# EAGLE library part WING_16BIT (library dan-gadgetfactory)
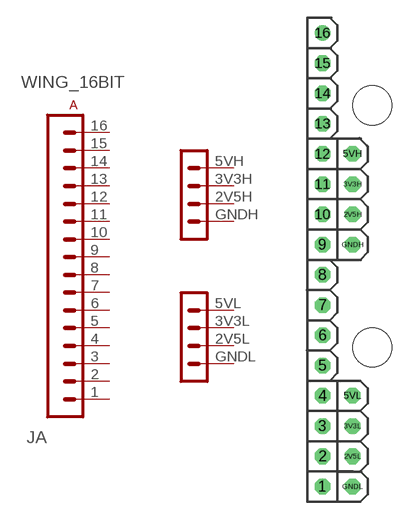
[diagram p0: symbol with the pads of WING_16BIT; footprint WING_16BIT]

Designator prefix J; gates A=WING_16BIT PL=WING_POWER PH=WING_POWER

## WING_16BIT  [WING_16BIT]
1  A:A1  pas
2  A:A2  pas
2V5H  PH:2V5  pas
2V5L  PL:2V5  pas
3  A:A3  pas
3V3H  PH:3V3  pas
3V3L  PL:3V3  pas
4  A:A4  pas
5  A:A5  pas
5VH  PH:5V  pas
5VL  PL:5V  pas
6  A:A6  pas
7  A:A7  pas
8  A:A8  pas
9  A:A9  pas
10  A:A10  pas
11  A:A11  pas
12  A:A12  pas
13  A:A13  pas
14  A:A14  pas
15  A:A15  pas
16  A:A16  pas
GNDH  PH:GND  pas
GNDL  PL:GND  pas

## Footprint WING_16BIT (pad centres in mm)
drill 0.8 octagon: 1 1.27,-19.05; 2 1.27,-16.51; 2V5H 3.81,3.81; 2V5L 3.81,-16.51; 3 1.27,-13.97; 3V3H 3.81,6.35; 3V3L 3.81,-13.97; 4 1.27,-11.43; 5 1.27,-8.89; 5VH 3.81,8.89; 5VL 3.81,-11.43; 6 1.27,-6.35; 7 1.27,-3.81; 8 1.27,-1.27; 9 1.27,1.27; 10 1.27,3.81; 11 1.27,6.35; 12 1.27,8.89; 13 1.27,11.43; 14 1.27,13.97; 15 1.27,16.51; GNDH 3.81,1.27; GNDL 3.81,-19.05
drill 0.8 round: 16 1.27,19.05
hole 3.302 at 5.461,12.954
hole 3.302 at 5.461,-7.366